# Altium integrated library Wurth_Elektronik_Passive_rev16a.IntLib: 1143 symbols (part 21 of 28)
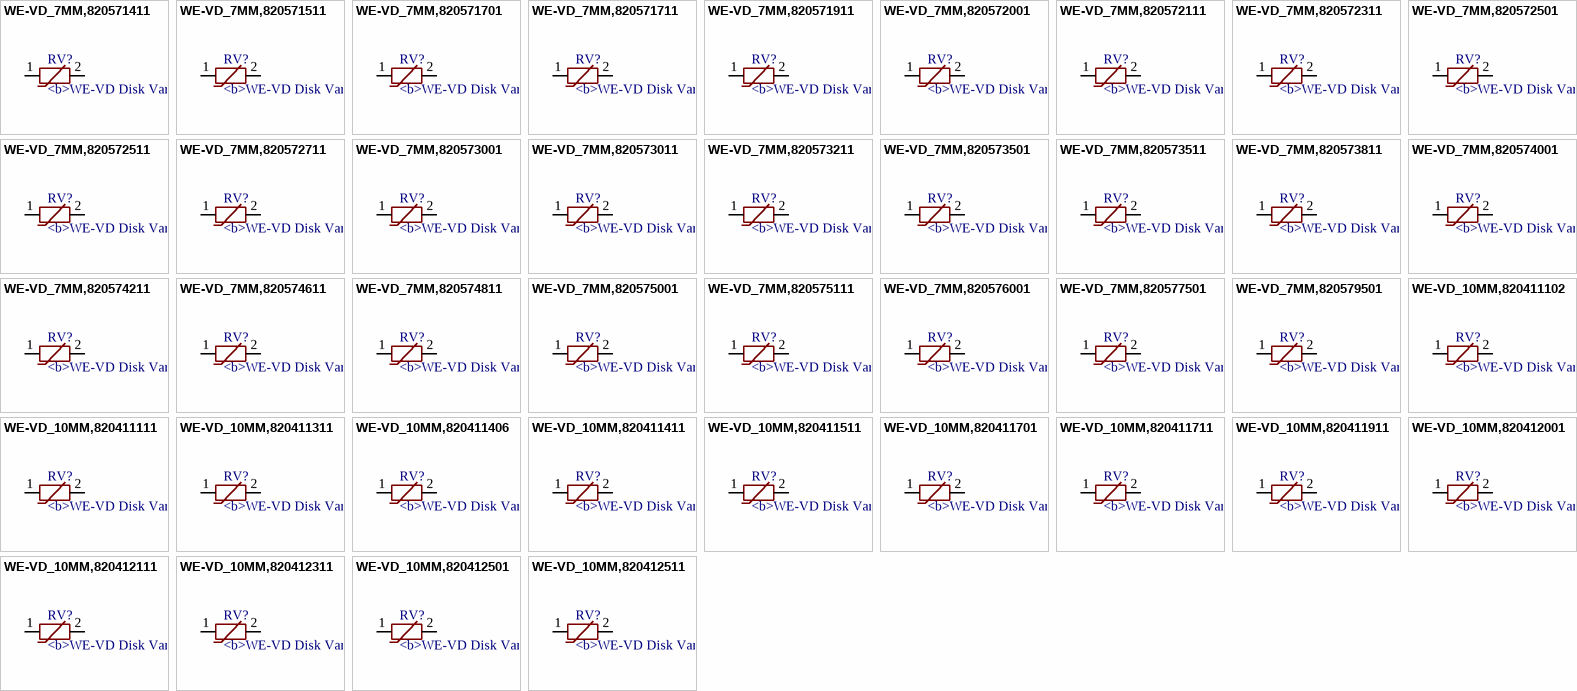
[diagram p78: symbols WE-VD_7MM,820571411 to WE-VD_10MM,820412511]

## WE-VD_10MM,820411411
designator RV?, comment <b>WE-VD Disk Varistor / <br> / <br> / <br><b>Characteristics / <br> / <br></b></b> Low clamping voltage / <br> / <br> After a surge impulse the varistor works immediately in normal mode so there is no slip current / <br> / <br> Excellent absorption at surge impulses / <br> / <br> Operating temperature: –40 ºC to +85 ºC for types up to 95 VRMS –40 ºC to +125 ºC for types from 115 VRMS / <br> / <br> Response time < 25 ns / <br> / <br> UL1449 3rd Edition, CSA and VDE approved UL: File E332875 CSA: File 224856 VDE: File 40016986 and 40016998 IEC: 60950-1: 2005 Annex Q from ∅ 10 mm / <br> / <br> / <br><b> Applications / <br> / <br></b> 12–48 VDC distribution / <br> / <br> 110–400 V power supply / <br> / <br> Leakage of voltage peaks / <br> / <br> Surge protection in accordance with EN 61000-4-5 / <br> / <br> / <br> / <br><a href="http://katalog.we-online.de/media/images/eisos/VarVD_pf2.jpg" title="Enlarge picture"> / <img src="http://katalog.we-online.de/media/images/eisos/VarVD_pf2.jpg" width="320"></a><p> / Details see: <a href="http://katalog.we-online.de/en/pbs/WE-VD?">http://katalog.we-online.de/en/pbs/WE-VD?</a><p> / Updated  by  Dan Xu 2014-07-11<br> / 2014 (C) Wurth Elektronik
MANUFACTURER: Würth Elektronik eiSos GmbH; CREATED-BY: Christin Zierenner; COMPANY-URL: http://www.we-online.de; CREATED-DATE: May 2012; DATASHEET-URL: http://katalog.we-online.de/kataloge/eisos/index.php?language=en&pf=WE-VD
footprint WE-VD_10MM-DIA
pins: 1, 2

## WE-VD_10MM,820411511
designator RV?, comment <b>WE-VD Disk Varistor / <br> / <br> / <br><b>Characteristics / <br> / <br></b></b> Low clamping voltage / <br> / <br> After a surge impulse the varistor works immediately in normal mode so there is no slip current / <br> / <br> Excellent absorption at surge impulses / <br> / <br> Operating temperature: –40 ºC to +85 ºC for types up to 95 VRMS –40 ºC to +125 ºC for types from 115 VRMS / <br> / <br> Response time < 25 ns / <br> / <br> UL1449 3rd Edition, CSA and VDE approved UL: File E332875 CSA: File 224856 VDE: File 40016986 and 40016998 IEC: 60950-1: 2005 Annex Q from ∅ 10 mm / <br> / <br> / <br><b> Applications / <br> / <br></b> 12–48 VDC distribution / <br> / <br> 110–400 V power supply / <br> / <br> Leakage of voltage peaks / <br> / <br> Surge protection in accordance with EN 61000-4-5 / <br> / <br> / <br> / <br><a href="http://katalog.we-online.de/media/images/eisos/VarVD_pf2.jpg" title="Enlarge picture"> / <img src="http://katalog.we-online.de/media/images/eisos/VarVD_pf2.jpg" width="320"></a><p> / Details see: <a href="http://katalog.we-online.de/en/pbs/WE-VD?">http://katalog.we-online.de/en/pbs/WE-VD?</a><p> / Updated  by  Dan Xu 2014-07-11<br> / 2014 (C) Wurth Elektronik
MANUFACTURER: Würth Elektronik eiSos GmbH; CREATED-BY: Christin Zierenner; COMPANY-URL: http://www.we-online.de; CREATED-DATE: May 2012; DATASHEET-URL: http://katalog.we-online.de/kataloge/eisos/index.php?language=en&pf=WE-VD
footprint WE-VD_10MM-DIA
pins: 1, 2

## WE-VD_10MM,820411701
designator RV?, comment <b>WE-VD Disk Varistor / <br> / <br> / <br><b>Characteristics / <br> / <br></b></b> Low clamping voltage / <br> / <br> After a surge impulse the varistor works immediately in normal mode so there is no slip current / <br> / <br> Excellent absorption at surge impulses / <br> / <br> Operating temperature: –40 ºC to +85 ºC for types up to 95 VRMS –40 ºC to +125 ºC for types from 115 VRMS / <br> / <br> Response time < 25 ns / <br> / <br> UL1449 3rd Edition, CSA and VDE approved UL: File E332875 CSA: File 224856 VDE: File 40016986 and 40016998 IEC: 60950-1: 2005 Annex Q from ∅ 10 mm / <br> / <br> / <br><b> Applications / <br> / <br></b> 12–48 VDC distribution / <br> / <br> 110–400 V power supply / <br> / <br> Leakage of voltage peaks / <br> / <br> Surge protection in accordance with EN 61000-4-5 / <br> / <br> / <br> / <br><a href="http://katalog.we-online.de/media/images/eisos/VarVD_pf2.jpg" title="Enlarge picture"> / <img src="http://katalog.we-online.de/media/images/eisos/VarVD_pf2.jpg" width="320"></a><p> / Details see: <a href="http://katalog.we-online.de/en/pbs/WE-VD?">http://katalog.we-online.de/en/pbs/WE-VD?</a><p> / Updated  by  Dan Xu 2014-07-11<br> / 2014 (C) Wurth Elektronik
MANUFACTURER: Würth Elektronik eiSos GmbH; CREATED-BY: Christin Zierenner; COMPANY-URL: http://www.we-online.de; CREATED-DATE: May 2012; DATASHEET-URL: http://katalog.we-online.de/kataloge/eisos/index.php?language=en&pf=WE-VD
footprint WE-VD_10MM-DIA
pins: 1, 2

## WE-VD_10MM,820411711
designator RV?, comment <b>WE-VD Disk Varistor / <br> / <br> / <br><b>Characteristics / <br> / <br></b></b> Low clamping voltage / <br> / <br> After a surge impulse the varistor works immediately in normal mode so there is no slip current / <br> / <br> Excellent absorption at surge impulses / <br> / <br> Operating temperature: –40 ºC to +85 ºC for types up to 95 VRMS –40 ºC to +125 ºC for types from 115 VRMS / <br> / <br> Response time < 25 ns / <br> / <br> UL1449 3rd Edition, CSA and VDE approved UL: File E332875 CSA: File 224856 VDE: File 40016986 and 40016998 IEC: 60950-1: 2005 Annex Q from ∅ 10 mm / <br> / <br> / <br><b> Applications / <br> / <br></b> 12–48 VDC distribution / <br> / <br> 110–400 V power supply / <br> / <br> Leakage of voltage peaks / <br> / <br> Surge protection in accordance with EN 61000-4-5 / <br> / <br> / <br> / <br><a href="http://katalog.we-online.de/media/images/eisos/VarVD_pf2.jpg" title="Enlarge picture"> / <img src="http://katalog.we-online.de/media/images/eisos/VarVD_pf2.jpg" width="320"></a><p> / Details see: <a href="http://katalog.we-online.de/en/pbs/WE-VD?">http://katalog.we-online.de/en/pbs/WE-VD?</a><p> / Updated  by  Dan Xu 2014-07-11<br> / 2014 (C) Wurth Elektronik
MANUFACTURER: Würth Elektronik eiSos GmbH; CREATED-BY: Christin Zierenner; COMPANY-URL: http://www.we-online.de; CREATED-DATE: May 2012; DATASHEET-URL: http://katalog.we-online.de/kataloge/eisos/index.php?language=en&pf=WE-VD
footprint WE-VD_10MM-DIA
pins: 1, 2

## WE-VD_10MM,820411911
designator RV?, comment <b>WE-VD Disk Varistor / <br> / <br> / <br><b>Characteristics / <br> / <br></b></b> Low clamping voltage / <br> / <br> After a surge impulse the varistor works immediately in normal mode so there is no slip current / <br> / <br> Excellent absorption at surge impulses / <br> / <br> Operating temperature: –40 ºC to +85 ºC for types up to 95 VRMS –40 ºC to +125 ºC for types from 115 VRMS / <br> / <br> Response time < 25 ns / <br> / <br> UL1449 3rd Edition, CSA and VDE approved UL: File E332875 CSA: File 224856 VDE: File 40016986 and 40016998 IEC: 60950-1: 2005 Annex Q from ∅ 10 mm / <br> / <br> / <br><b> Applications / <br> / <br></b> 12–48 VDC distribution / <br> / <br> 110–400 V power supply / <br> / <br> Leakage of voltage peaks / <br> / <br> Surge protection in accordance with EN 61000-4-5 / <br> / <br> / <br> / <br><a href="http://katalog.we-online.de/media/images/eisos/VarVD_pf2.jpg" title="Enlarge picture"> / <img src="http://katalog.we-online.de/media/images/eisos/VarVD_pf2.jpg" width="320"></a><p> / Details see: <a href="http://katalog.we-online.de/en/pbs/WE-VD?">http://katalog.we-online.de/en/pbs/WE-VD?</a><p> / Updated  by  Dan Xu 2014-07-11<br> / 2014 (C) Wurth Elektronik
MANUFACTURER: Würth Elektronik eiSos GmbH; CREATED-BY: Christin Zierenner; COMPANY-URL: http://www.we-online.de; CREATED-DATE: May 2012; DATASHEET-URL: http://katalog.we-online.de/kataloge/eisos/index.php?language=en&pf=WE-VD
footprint WE-VD_10MM-DIA
pins: 1, 2

## WE-VD_10MM,820412001
designator RV?, comment <b>WE-VD Disk Varistor / <br> / <br> / <br><b>Characteristics / <br> / <br></b></b> Low clamping voltage / <br> / <br> After a surge impulse the varistor works immediately in normal mode so there is no slip current / <br> / <br> Excellent absorption at surge impulses / <br> / <br> Operating temperature: –40 ºC to +85 ºC for types up to 95 VRMS –40 ºC to +125 ºC for types from 115 VRMS / <br> / <br> Response time < 25 ns / <br> / <br> UL1449 3rd Edition, CSA and VDE approved UL: File E332875 CSA: File 224856 VDE: File 40016986 and 40016998 IEC: 60950-1: 2005 Annex Q from ∅ 10 mm / <br> / <br> / <br><b> Applications / <br> / <br></b> 12–48 VDC distribution / <br> / <br> 110–400 V power supply / <br> / <br> Leakage of voltage peaks / <br> / <br> Surge protection in accordance with EN 61000-4-5 / <br> / <br> / <br> / <br><a href="http://katalog.we-online.de/media/images/eisos/VarVD_pf2.jpg" title="Enlarge picture"> / <img src="http://katalog.we-online.de/media/images/eisos/VarVD_pf2.jpg" width="320"></a><p> / Details see: <a href="http://katalog.we-online.de/en/pbs/WE-VD?">http://katalog.we-online.de/en/pbs/WE-VD?</a><p> / Updated  by  Dan Xu 2014-07-11<br> / 2014 (C) Wurth Elektronik
MANUFACTURER: Würth Elektronik eiSos GmbH; CREATED-BY: Christin Zierenner; COMPANY-URL: http://www.we-online.de; CREATED-DATE: May 2012; DATASHEET-URL: http://katalog.we-online.de/kataloge/eisos/media/pdf/820412001.pdf
footprint WE-VD_10MM-DIA
pins: 1, 2

## WE-VD_10MM,820412111
designator RV?, comment <b>WE-VD Disk Varistor / <br> / <br> / <br><b>Characteristics / <br> / <br></b></b> Low clamping voltage / <br> / <br> After a surge impulse the varistor works immediately in normal mode so there is no slip current / <br> / <br> Excellent absorption at surge impulses / <br> / <br> Operating temperature: –40 ºC to +85 ºC for types up to 95 VRMS –40 ºC to +125 ºC for types from 115 VRMS / <br> / <br> Response time < 25 ns / <br> / <br> UL1449 3rd Edition, CSA and VDE approved UL: File E332875 CSA: File 224856 VDE: File 40016986 and 40016998 IEC: 60950-1: 2005 Annex Q from ∅ 10 mm / <br> / <br> / <br><b> Applications / <br> / <br></b> 12–48 VDC distribution / <br> / <br> 110–400 V power supply / <br> / <br> Leakage of voltage peaks / <br> / <br> Surge protection in accordance with EN 61000-4-5 / <br> / <br> / <br> / <br><a href="http://katalog.we-online.de/media/images/eisos/VarVD_pf2.jpg" title="Enlarge picture"> / <img src="http://katalog.we-online.de/media/images/eisos/VarVD_pf2.jpg" width="320"></a><p> / Details see: <a href="http://katalog.we-online.de/en/pbs/WE-VD?">http://katalog.we-online.de/en/pbs/WE-VD?</a><p> / Updated  by  Dan Xu 2014-07-11<br> / 2014 (C) Wurth Elektronik
MANUFACTURER: Würth Elektronik eiSos GmbH; CREATED-BY: Christin Zierenner; COMPANY-URL: http://www.we-online.de; CREATED-DATE: May 2012; DATASHEET-URL: http://katalog.we-online.de/kataloge/eisos/index.php?language=en&pf=WE-VD
footprint WE-VD_10MM-DIA
pins: 1, 2

## WE-VD_10MM,820412311
designator RV?, comment <b>WE-VD Disk Varistor / <br> / <br> / <br><b>Characteristics / <br> / <br></b></b> Low clamping voltage / <br> / <br> After a surge impulse the varistor works immediately in normal mode so there is no slip current / <br> / <br> Excellent absorption at surge impulses / <br> / <br> Operating temperature: –40 ºC to +85 ºC for types up to 95 VRMS –40 ºC to +125 ºC for types from 115 VRMS / <br> / <br> Response time < 25 ns / <br> / <br> UL1449 3rd Edition, CSA and VDE approved UL: File E332875 CSA: File 224856 VDE: File 40016986 and 40016998 IEC: 60950-1: 2005 Annex Q from ∅ 10 mm / <br> / <br> / <br><b> Applications / <br> / <br></b> 12–48 VDC distribution / <br> / <br> 110–400 V power supply / <br> / <br> Leakage of voltage peaks / <br> / <br> Surge protection in accordance with EN 61000-4-5 / <br> / <br> / <br> / <br><a href="http://katalog.we-online.de/media/images/eisos/VarVD_pf2.jpg" title="Enlarge picture"> / <img src="http://katalog.we-online.de/media/images/eisos/VarVD_pf2.jpg" width="320"></a><p> / Details see: <a href="http://katalog.we-online.de/en/pbs/WE-VD?">http://katalog.we-online.de/en/pbs/WE-VD?</a><p> / Updated  by  Dan Xu 2014-07-11<br> / 2014 (C) Wurth Elektronik
MANUFACTURER: Würth Elektronik eiSos GmbH; CREATED-BY: Christin Zierenner; COMPANY-URL: http://www.we-online.de; CREATED-DATE: May 2012; DATASHEET-URL: http://katalog.we-online.de/kataloge/eisos/index.php?language=en&pf=WE-VD
footprint WE-VD_10MM-0.9
pins: 1, 2

## WE-VD_10MM,820412501
designator RV?, comment <b>WE-VD Disk Varistor / <br> / <br> / <br><b>Characteristics / <br> / <br></b></b> Low clamping voltage / <br> / <br> After a surge impulse the varistor works immediately in normal mode so there is no slip current / <br> / <br> Excellent absorption at surge impulses / <br> / <br> Operating temperature: –40 ºC to +85 ºC for types up to 95 VRMS –40 ºC to +125 ºC for types from 115 VRMS / <br> / <br> Response time < 25 ns / <br> / <br> UL1449 3rd Edition, CSA and VDE approved UL: File E332875 CSA: File 224856 VDE: File 40016986 and 40016998 IEC: 60950-1: 2005 Annex Q from ∅ 10 mm / <br> / <br> / <br><b> Applications / <br> / <br></b> 12–48 VDC distribution / <br> / <br> 110–400 V power supply / <br> / <br> Leakage of voltage peaks / <br> / <br> Surge protection in accordance with EN 61000-4-5 / <br> / <br> / <br> / <br><a href="http://katalog.we-online.de/media/images/eisos/VarVD_pf2.jpg" title="Enlarge picture"> / <img src="http://katalog.we-online.de/media/images/eisos/VarVD_pf2.jpg" width="320"></a><p> / Details see: <a href="http://katalog.we-online.de/en/pbs/WE-VD?">http://katalog.we-online.de/en/pbs/WE-VD?</a><p> / Updated  by  Dan Xu 2014-07-11<br> / 2014 (C) Wurth Elektronik
MANUFACTURER: Würth Elektronik eiSos GmbH; CREATED-BY: Christin Zierenner; COMPANY-URL: http://www.we-online.de; CREATED-DATE: May 2012; DATASHEET-URL: http://katalog.we-online.de/kataloge/eisos/index.php?language=en&pf=WE-VD
footprint WE-VD_10MM-DIA
pins: 1, 2

## WE-VD_10MM,820412511
designator RV?, comment <b>WE-VD Disk Varistor / <br> / <br> / <br><b>Characteristics / <br> / <br></b></b> Low clamping voltage / <br> / <br> After a surge impulse the varistor works immediately in normal mode so there is no slip current / <br> / <br> Excellent absorption at surge impulses / <br> / <br> Operating temperature: –40 ºC to +85 ºC for types up to 95 VRMS –40 ºC to +125 ºC for types from 115 VRMS / <br> / <br> Response time < 25 ns / <br> / <br> UL1449 3rd Edition, CSA and VDE approved UL: File E332875 CSA: File 224856 VDE: File 40016986 and 40016998 IEC: 60950-1: 2005 Annex Q from ∅ 10 mm / <br> / <br> / <br><b> Applications / <br> / <br></b> 12–48 VDC distribution / <br> / <br> 110–400 V power supply / <br> / <br> Leakage of voltage peaks / <br> / <br> Surge protection in accordance with EN 61000-4-5 / <br> / <br> / <br> / <br><a href="http://katalog.we-online.de/media/images/eisos/VarVD_pf2.jpg" title="Enlarge picture"> / <img src="http://katalog.we-online.de/media/images/eisos/VarVD_pf2.jpg" width="320"></a><p> / Details see: <a href="http://katalog.we-online.de/en/pbs/WE-VD?">http://katalog.we-online.de/en/pbs/WE-VD?</a><p> / Updated  by  Dan Xu 2014-07-11<br> / 2014 (C) Wurth Elektronik
MANUFACTURER: Würth Elektronik eiSos GmbH; CREATED-BY: Christin Zierenner; COMPANY-URL: http://www.we-online.de; CREATED-DATE: May 2012; DATASHEET-URL: http://katalog.we-online.de/kataloge/eisos/media/pdf/820412511.pdf
footprint WE-VD_10MM-1.1
pins: 1, 2

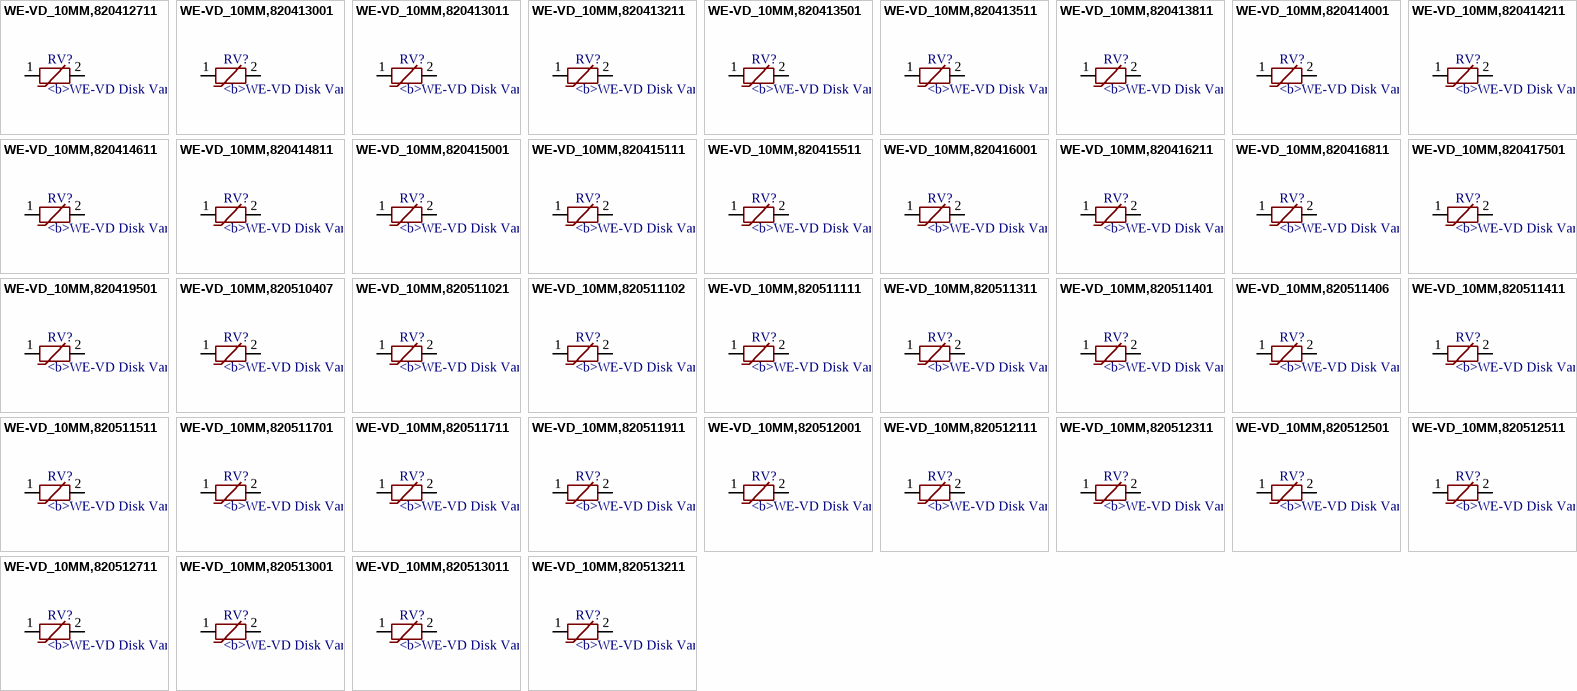
[diagram p52: symbols WE-VD_10MM,820412711 to WE-VD_10MM,820513211]

## WE-VD_10MM,820412711
designator RV?, comment <b>WE-VD Disk Varistor / <br> / <br> / <br><b>Characteristics / <br> / <br></b></b> Low clamping voltage / <br> / <br> After a surge impulse the varistor works immediately in normal mode so there is no slip current / <br> / <br> Excellent absorption at surge impulses / <br> / <br> Operating temperature: –40 ºC to +85 ºC for types up to 95 VRMS –40 ºC to +125 ºC for types from 115 VRMS / <br> / <br> Response time < 25 ns / <br> / <br> UL1449 3rd Edition, CSA and VDE approved UL: File E332875 CSA: File 224856 VDE: File 40016986 and 40016998 IEC: 60950-1: 2005 Annex Q from ∅ 10 mm / <br> / <br> / <br><b> Applications / <br> / <br></b> 12–48 VDC distribution / <br> / <br> 110–400 V power supply / <br> / <br> Leakage of voltage peaks / <br> / <br> Surge protection in accordance with EN 61000-4-5 / <br> / <br> / <br> / <br><a href="http://katalog.we-online.de/media/images/eisos/VarVD_pf2.jpg" title="Enlarge picture"> / <img src="http://katalog.we-online.de/media/images/eisos/VarVD_pf2.jpg" width="320"></a><p> / Details see: <a href="http://katalog.we-online.de/en/pbs/WE-VD?">http://katalog.we-online.de/en/pbs/WE-VD?</a><p> / Updated  by  Dan Xu 2014-07-11<br> / 2014 (C) Wurth Elektronik
MANUFACTURER: Würth Elektronik eiSos GmbH; CREATED-BY: Christin Zierenner; COMPANY-URL: http://www.we-online.de; CREATED-DATE: May 2012; DATASHEET-URL: http://katalog.we-online.de/kataloge/eisos/media/pdf/820412711.pdf
footprint WE-VD_10MM-1.3
pins: 1, 2

## WE-VD_10MM,820413001
designator RV?, comment <b>WE-VD Disk Varistor / <br> / <br> / <br><b>Characteristics / <br> / <br></b></b> Low clamping voltage / <br> / <br> After a surge impulse the varistor works immediately in normal mode so there is no slip current / <br> / <br> Excellent absorption at surge impulses / <br> / <br> Operating temperature: –40 ºC to +85 ºC for types up to 95 VRMS –40 ºC to +125 ºC for types from 115 VRMS / <br> / <br> Response time < 25 ns / <br> / <br> UL1449 3rd Edition, CSA and VDE approved UL: File E332875 CSA: File 224856 VDE: File 40016986 and 40016998 IEC: 60950-1: 2005 Annex Q from ∅ 10 mm / <br> / <br> / <br><b> Applications / <br> / <br></b> 12–48 VDC distribution / <br> / <br> 110–400 V power supply / <br> / <br> Leakage of voltage peaks / <br> / <br> Surge protection in accordance with EN 61000-4-5 / <br> / <br> / <br> / <br><a href="http://katalog.we-online.de/media/images/eisos/VarVD_pf2.jpg" title="Enlarge picture"> / <img src="http://katalog.we-online.de/media/images/eisos/VarVD_pf2.jpg" width="320"></a><p> / Details see: <a href="http://katalog.we-online.de/en/pbs/WE-VD?">http://katalog.we-online.de/en/pbs/WE-VD?</a><p> / Updated  by  Dan Xu 2014-07-11<br> / 2014 (C) Wurth Elektronik
MANUFACTURER: Würth Elektronik eiSos GmbH; CREATED-BY: Christin Zierenner; COMPANY-URL: http://www.we-online.de; CREATED-DATE: May 2012; DATASHEET-URL: http://katalog.we-online.de/kataloge/eisos/index.php?language=en&pf=WE-VD
footprint WE-VD_10MM-DIA
pins: 1, 2

## WE-VD_10MM,820413011
designator RV?, comment <b>WE-VD Disk Varistor / <br> / <br> / <br><b>Characteristics / <br> / <br></b></b> Low clamping voltage / <br> / <br> After a surge impulse the varistor works immediately in normal mode so there is no slip current / <br> / <br> Excellent absorption at surge impulses / <br> / <br> Operating temperature: –40 ºC to +85 ºC for types up to 95 VRMS –40 ºC to +125 ºC for types from 115 VRMS / <br> / <br> Response time < 25 ns / <br> / <br> UL1449 3rd Edition, CSA and VDE approved UL: File E332875 CSA: File 224856 VDE: File 40016986 and 40016998 IEC: 60950-1: 2005 Annex Q from ∅ 10 mm / <br> / <br> / <br><b> Applications / <br> / <br></b> 12–48 VDC distribution / <br> / <br> 110–400 V power supply / <br> / <br> Leakage of voltage peaks / <br> / <br> Surge protection in accordance with EN 61000-4-5 / <br> / <br> / <br> / <br><a href="http://katalog.we-online.de/media/images/eisos/VarVD_pf2.jpg" title="Enlarge picture"> / <img src="http://katalog.we-online.de/media/images/eisos/VarVD_pf2.jpg" width="320"></a><p> / Details see: <a href="http://katalog.we-online.de/en/pbs/WE-VD?">http://katalog.we-online.de/en/pbs/WE-VD?</a><p> / Updated  by  Dan Xu 2014-07-11<br> / 2014 (C) Wurth Elektronik
MANUFACTURER: Würth Elektronik eiSos GmbH; CREATED-BY: Christin Zierenner; COMPANY-URL: http://www.we-online.de; CREATED-DATE: May 2012; DATASHEET-URL: http://katalog.we-online.de/kataloge/eisos/index.php?language=en&pf=WE-VD
footprint WE-VD_10MM-1.5
pins: 1, 2

## WE-VD_10MM,820413211
designator RV?, comment <b>WE-VD Disk Varistor / <br> / <br> / <br><b>Characteristics / <br> / <br></b></b> Low clamping voltage / <br> / <br> After a surge impulse the varistor works immediately in normal mode so there is no slip current / <br> / <br> Excellent absorption at surge impulses / <br> / <br> Operating temperature: –40 ºC to +85 ºC for types up to 95 VRMS –40 ºC to +125 ºC for types from 115 VRMS / <br> / <br> Response time < 25 ns / <br> / <br> UL1449 3rd Edition, CSA and VDE approved UL: File E332875 CSA: File 224856 VDE: File 40016986 and 40016998 IEC: 60950-1: 2005 Annex Q from ∅ 10 mm / <br> / <br> / <br><b> Applications / <br> / <br></b> 12–48 VDC distribution / <br> / <br> 110–400 V power supply / <br> / <br> Leakage of voltage peaks / <br> / <br> Surge protection in accordance with EN 61000-4-5 / <br> / <br> / <br> / <br><a href="http://katalog.we-online.de/media/images/eisos/VarVD_pf2.jpg" title="Enlarge picture"> / <img src="http://katalog.we-online.de/media/images/eisos/VarVD_pf2.jpg" width="320"></a><p> / Details see: <a href="http://katalog.we-online.de/en/pbs/WE-VD?">http://katalog.we-online.de/en/pbs/WE-VD?</a><p> / Updated  by  Dan Xu 2014-07-11<br> / 2014 (C) Wurth Elektronik
MANUFACTURER: Würth Elektronik eiSos GmbH; CREATED-BY: Christin Zierenner; COMPANY-URL: http://www.we-online.de; CREATED-DATE: May 2012; DATASHEET-URL: http://katalog.we-online.de/kataloge/eisos/index.php?language=en&pf=WE-VD
footprint WE-VD_10MM-1.6
pins: 1, 2

## WE-VD_10MM,820413501
designator RV?, comment <b>WE-VD Disk Varistor / <br> / <br> / <br><b>Characteristics / <br> / <br></b></b> Low clamping voltage / <br> / <br> After a surge impulse the varistor works immediately in normal mode so there is no slip current / <br> / <br> Excellent absorption at surge impulses / <br> / <br> Operating temperature: –40 ºC to +85 ºC for types up to 95 VRMS –40 ºC to +125 ºC for types from 115 VRMS / <br> / <br> Response time < 25 ns / <br> / <br> UL1449 3rd Edition, CSA and VDE approved UL: File E332875 CSA: File 224856 VDE: File 40016986 and 40016998 IEC: 60950-1: 2005 Annex Q from ∅ 10 mm / <br> / <br> / <br><b> Applications / <br> / <br></b> 12–48 VDC distribution / <br> / <br> 110–400 V power supply / <br> / <br> Leakage of voltage peaks / <br> / <br> Surge protection in accordance with EN 61000-4-5 / <br> / <br> / <br> / <br><a href="http://katalog.we-online.de/media/images/eisos/VarVD_pf2.jpg" title="Enlarge picture"> / <img src="http://katalog.we-online.de/media/images/eisos/VarVD_pf2.jpg" width="320"></a><p> / Details see: <a href="http://katalog.we-online.de/en/pbs/WE-VD?">http://katalog.we-online.de/en/pbs/WE-VD?</a><p> / Updated  by  Dan Xu 2014-07-11<br> / 2014 (C) Wurth Elektronik
MANUFACTURER: Würth Elektronik eiSos GmbH; CREATED-BY: Christin Zierenner; COMPANY-URL: http://www.we-online.de; CREATED-DATE: May 2012; DATASHEET-URL: http://katalog.we-online.de/kataloge/eisos/index.php?language=en&pf=WE-VD
footprint WE-VD_10MM-0.9
pins: 1, 2

## WE-VD_10MM,820413511
designator RV?, comment <b>WE-VD Disk Varistor / <br> / <br> / <br><b>Characteristics / <br> / <br></b></b> Low clamping voltage / <br> / <br> After a surge impulse the varistor works immediately in normal mode so there is no slip current / <br> / <br> Excellent absorption at surge impulses / <br> / <br> Operating temperature: –40 ºC to +85 ºC for types up to 95 VRMS –40 ºC to +125 ºC for types from 115 VRMS / <br> / <br> Response time < 25 ns / <br> / <br> UL1449 3rd Edition, CSA and VDE approved UL: File E332875 CSA: File 224856 VDE: File 40016986 and 40016998 IEC: 60950-1: 2005 Annex Q from ∅ 10 mm / <br> / <br> / <br><b> Applications / <br> / <br></b> 12–48 VDC distribution / <br> / <br> 110–400 V power supply / <br> / <br> Leakage of voltage peaks / <br> / <br> Surge protection in accordance with EN 61000-4-5 / <br> / <br> / <br> / <br><a href="http://katalog.we-online.de/media/images/eisos/VarVD_pf2.jpg" title="Enlarge picture"> / <img src="http://katalog.we-online.de/media/images/eisos/VarVD_pf2.jpg" width="320"></a><p> / Details see: <a href="http://katalog.we-online.de/en/pbs/WE-VD?">http://katalog.we-online.de/en/pbs/WE-VD?</a><p> / Updated  by  Dan Xu 2014-07-11<br> / 2014 (C) Wurth Elektronik
MANUFACTURER: Würth Elektronik eiSos GmbH; CREATED-BY: Christin Zierenner; COMPANY-URL: http://www.we-online.de; CREATED-DATE: May 2012; DATASHEET-URL: http://katalog.we-online.de/kataloge/eisos/index.php?language=en&pf=WE-VD
footprint WE-VD_10MM-1.9
pins: 1, 2

## WE-VD_10MM,820413811
designator RV?, comment <b>WE-VD Disk Varistor / <br> / <br> / <br><b>Characteristics / <br> / <br></b></b> Low clamping voltage / <br> / <br> After a surge impulse the varistor works immediately in normal mode so there is no slip current / <br> / <br> Excellent absorption at surge impulses / <br> / <br> Operating temperature: –40 ºC to +85 ºC for types up to 95 VRMS –40 ºC to +125 ºC for types from 115 VRMS / <br> / <br> Response time < 25 ns / <br> / <br> UL1449 3rd Edition, CSA and VDE approved UL: File E332875 CSA: File 224856 VDE: File 40016986 and 40016998 IEC: 60950-1: 2005 Annex Q from ∅ 10 mm / <br> / <br> / <br><b> Applications / <br> / <br></b> 12–48 VDC distribution / <br> / <br> 110–400 V power supply / <br> / <br> Leakage of voltage peaks / <br> / <br> Surge protection in accordance with EN 61000-4-5 / <br> / <br> / <br> / <br><a href="http://katalog.we-online.de/media/images/eisos/VarVD_pf2.jpg" title="Enlarge picture"> / <img src="http://katalog.we-online.de/media/images/eisos/VarVD_pf2.jpg" width="320"></a><p> / Details see: <a href="http://katalog.we-online.de/en/pbs/WE-VD?">http://katalog.we-online.de/en/pbs/WE-VD?</a><p> / Updated  by  Dan Xu 2014-07-11<br> / 2014 (C) Wurth Elektronik
MANUFACTURER: Würth Elektronik eiSos GmbH; CREATED-BY: Christin Zierenner; COMPANY-URL: http://www.we-online.de; CREATED-DATE: May 2012; DATASHEET-URL: http://katalog.we-online.de/kataloge/eisos/index.php?language=en&pf=WE-VD
footprint WE-VD_10MM-2.2
pins: 1, 2

## WE-VD_10MM,820414001
designator RV?, comment <b>WE-VD Disk Varistor / <br> / <br> / <br><b>Characteristics / <br> / <br></b></b> Low clamping voltage / <br> / <br> After a surge impulse the varistor works immediately in normal mode so there is no slip current / <br> / <br> Excellent absorption at surge impulses / <br> / <br> Operating temperature: –40 ºC to +85 ºC for types up to 95 VRMS –40 ºC to +125 ºC for types from 115 VRMS / <br> / <br> Response time < 25 ns / <br> / <br> UL1449 3rd Edition, CSA and VDE approved UL: File E332875 CSA: File 224856 VDE: File 40016986 and 40016998 IEC: 60950-1: 2005 Annex Q from ∅ 10 mm / <br> / <br> / <br><b> Applications / <br> / <br></b> 12–48 VDC distribution / <br> / <br> 110–400 V power supply / <br> / <br> Leakage of voltage peaks / <br> / <br> Surge protection in accordance with EN 61000-4-5 / <br> / <br> / <br> / <br><a href="http://katalog.we-online.de/media/images/eisos/VarVD_pf2.jpg" title="Enlarge picture"> / <img src="http://katalog.we-online.de/media/images/eisos/VarVD_pf2.jpg" width="320"></a><p> / Details see: <a href="http://katalog.we-online.de/en/pbs/WE-VD?">http://katalog.we-online.de/en/pbs/WE-VD?</a><p> / Updated  by  Dan Xu 2014-07-11<br> / 2014 (C) Wurth Elektronik
MANUFACTURER: Würth Elektronik eiSos GmbH; CREATED-BY: Christin Zierenner; COMPANY-URL: http://www.we-online.de; CREATED-DATE: May 2012; DATASHEET-URL: http://katalog.we-online.de/kataloge/eisos/index.php?language=en&pf=WE-VD
footprint WE-VD_10MM-1.3
pins: 1, 2

## WE-VD_10MM,820414211
designator RV?, comment <b>WE-VD Disk Varistor / <br> / <br> / <br><b>Characteristics / <br> / <br></b></b> Low clamping voltage / <br> / <br> After a surge impulse the varistor works immediately in normal mode so there is no slip current / <br> / <br> Excellent absorption at surge impulses / <br> / <br> Operating temperature: –40 ºC to +85 ºC for types up to 95 VRMS –40 ºC to +125 ºC for types from 115 VRMS / <br> / <br> Response time < 25 ns / <br> / <br> UL1449 3rd Edition, CSA and VDE approved UL: File E332875 CSA: File 224856 VDE: File 40016986 and 40016998 IEC: 60950-1: 2005 Annex Q from ∅ 10 mm / <br> / <br> / <br><b> Applications / <br> / <br></b> 12–48 VDC distribution / <br> / <br> 110–400 V power supply / <br> / <br> Leakage of voltage peaks / <br> / <br> Surge protection in accordance with EN 61000-4-5 / <br> / <br> / <br> / <br><a href="http://katalog.we-online.de/media/images/eisos/VarVD_pf2.jpg" title="Enlarge picture"> / <img src="http://katalog.we-online.de/media/images/eisos/VarVD_pf2.jpg" width="320"></a><p> / Details see: <a href="http://katalog.we-online.de/en/pbs/WE-VD?">http://katalog.we-online.de/en/pbs/WE-VD?</a><p> / Updated  by  Dan Xu 2014-07-11<br> / 2014 (C) Wurth Elektronik
MANUFACTURER: Würth Elektronik eiSos GmbH; CREATED-BY: Christin Zierenner; COMPANY-URL: http://www.we-online.de; CREATED-DATE: May 2012; DATASHEET-URL: http://katalog.we-online.de/kataloge/eisos/index.php?language=en&pf=WE-VD
footprint WE-VD_10MM-2.5
pins: 1, 2

## WE-VD_10MM,820414611
designator RV?, comment <b>WE-VD Disk Varistor / <br> / <br> / <br><b>Characteristics / <br> / <br></b></b> Low clamping voltage / <br> / <br> After a surge impulse the varistor works immediately in normal mode so there is no slip current / <br> / <br> Excellent absorption at surge impulses / <br> / <br> Operating temperature: –40 ºC to +85 ºC for types up to 95 VRMS –40 ºC to +125 ºC for types from 115 VRMS / <br> / <br> Response time < 25 ns / <br> / <br> UL1449 3rd Edition, CSA and VDE approved UL: File E332875 CSA: File 224856 VDE: File 40016986 and 40016998 IEC: 60950-1: 2005 Annex Q from ∅ 10 mm / <br> / <br> / <br><b> Applications / <br> / <br></b> 12–48 VDC distribution / <br> / <br> 110–400 V power supply / <br> / <br> Leakage of voltage peaks / <br> / <br> Surge protection in accordance with EN 61000-4-5 / <br> / <br> / <br> / <br><a href="http://katalog.we-online.de/media/images/eisos/VarVD_pf2.jpg" title="Enlarge picture"> / <img src="http://katalog.we-online.de/media/images/eisos/VarVD_pf2.jpg" width="320"></a><p> / Details see: <a href="http://katalog.we-online.de/en/pbs/WE-VD?">http://katalog.we-online.de/en/pbs/WE-VD?</a><p> / Updated  by  Dan Xu 2014-07-11<br> / 2014 (C) Wurth Elektronik
MANUFACTURER: Würth Elektronik eiSos GmbH; CREATED-BY: Christin Zierenner; COMPANY-URL: http://www.we-online.de; CREATED-DATE: May 2012; DATASHEET-URL: http://katalog.we-online.de/kataloge/eisos/index.php?language=en&pf=WE-VD
footprint WE-VD_10MM-2.8
pins: 1, 2

## WE-VD_10MM,820414811
designator RV?, comment <b>WE-VD Disk Varistor / <br> / <br> / <br><b>Characteristics / <br> / <br></b></b> Low clamping voltage / <br> / <br> After a surge impulse the varistor works immediately in normal mode so there is no slip current / <br> / <br> Excellent absorption at surge impulses / <br> / <br> Operating temperature: –40 ºC to +85 ºC for types up to 95 VRMS –40 ºC to +125 ºC for types from 115 VRMS / <br> / <br> Response time < 25 ns / <br> / <br> UL1449 3rd Edition, CSA and VDE approved UL: File E332875 CSA: File 224856 VDE: File 40016986 and 40016998 IEC: 60950-1: 2005 Annex Q from ∅ 10 mm / <br> / <br> / <br><b> Applications / <br> / <br></b> 12–48 VDC distribution / <br> / <br> 110–400 V power supply / <br> / <br> Leakage of voltage peaks / <br> / <br> Surge protection in accordance with EN 61000-4-5 / <br> / <br> / <br> / <br><a href="http://katalog.we-online.de/media/images/eisos/VarVD_pf2.jpg" title="Enlarge picture"> / <img src="http://katalog.we-online.de/media/images/eisos/VarVD_pf2.jpg" width="320"></a><p> / Details see: <a href="http://katalog.we-online.de/en/pbs/WE-VD?">http://katalog.we-online.de/en/pbs/WE-VD?</a><p> / Updated  by  Dan Xu 2014-07-11<br> / 2014 (C) Wurth Elektronik
MANUFACTURER: Würth Elektronik eiSos GmbH; CREATED-BY: Christin Zierenner; COMPANY-URL: http://www.we-online.de; CREATED-DATE: May 2012; DATASHEET-URL: http://katalog.we-online.de/kataloge/eisos/index.php?language=en&pf=WE-VD
footprint WE-VD_10MM-2.9
pins: 1, 2

## WE-VD_10MM,820415001
designator RV?, comment <b>WE-VD Disk Varistor / <br> / <br> / <br><b>Characteristics / <br> / <br></b></b> Low clamping voltage / <br> / <br> After a surge impulse the varistor works immediately in normal mode so there is no slip current / <br> / <br> Excellent absorption at surge impulses / <br> / <br> Operating temperature: –40 ºC to +85 ºC for types up to 95 VRMS –40 ºC to +125 ºC for types from 115 VRMS / <br> / <br> Response time < 25 ns / <br> / <br> UL1449 3rd Edition, CSA and VDE approved UL: File E332875 CSA: File 224856 VDE: File 40016986 and 40016998 IEC: 60950-1: 2005 Annex Q from ∅ 10 mm / <br> / <br> / <br><b> Applications / <br> / <br></b> 12–48 VDC distribution / <br> / <br> 110–400 V power supply / <br> / <br> Leakage of voltage peaks / <br> / <br> Surge protection in accordance with EN 61000-4-5 / <br> / <br> / <br> / <br><a href="http://katalog.we-online.de/media/images/eisos/VarVD_pf2.jpg" title="Enlarge picture"> / <img src="http://katalog.we-online.de/media/images/eisos/VarVD_pf2.jpg" width="320"></a><p> / Details see: <a href="http://katalog.we-online.de/en/pbs/WE-VD?">http://katalog.we-online.de/en/pbs/WE-VD?</a><p> / Updated  by  Dan Xu 2014-07-11<br> / 2014 (C) Wurth Elektronik
MANUFACTURER: Würth Elektronik eiSos GmbH; CREATED-BY: Christin Zierenner; COMPANY-URL: http://www.we-online.de; CREATED-DATE: May 2012; DATASHEET-URL: http://katalog.we-online.de/kataloge/eisos/index.php?language=en&pf=WE-VD
footprint WE-VD_10MM-DIA
pins: 1, 2

## WE-VD_10MM,820415111
designator RV?, comment <b>WE-VD Disk Varistor / <br> / <br> / <br><b>Characteristics / <br> / <br></b></b> Low clamping voltage / <br> / <br> After a surge impulse the varistor works immediately in normal mode so there is no slip current / <br> / <br> Excellent absorption at surge impulses / <br> / <br> Operating temperature: –40 ºC to +85 ºC for types up to 95 VRMS –40 ºC to +125 ºC for types from 115 VRMS / <br> / <br> Response time < 25 ns / <br> / <br> UL1449 3rd Edition, CSA and VDE approved UL: File E332875 CSA: File 224856 VDE: File 40016986 and 40016998 IEC: 60950-1: 2005 Annex Q from ∅ 10 mm / <br> / <br> / <br><b> Applications / <br> / <br></b> 12–48 VDC distribution / <br> / <br> 110–400 V power supply / <br> / <br> Leakage of voltage peaks / <br> / <br> Surge protection in accordance with EN 61000-4-5 / <br> / <br> / <br> / <br><a href="http://katalog.we-online.de/media/images/eisos/VarVD_pf2.jpg" title="Enlarge picture"> / <img src="http://katalog.we-online.de/media/images/eisos/VarVD_pf2.jpg" width="320"></a><p> / Details see: <a href="http://katalog.we-online.de/en/pbs/WE-VD?">http://katalog.we-online.de/en/pbs/WE-VD?</a><p> / Updated  by  Dan Xu 2014-07-11<br> / 2014 (C) Wurth Elektronik
MANUFACTURER: Würth Elektronik eiSos GmbH; CREATED-BY: Christin Zierenner; COMPANY-URL: http://www.we-online.de; CREATED-DATE: May 2012; DATASHEET-URL: http://katalog.we-online.de/kataloge/eisos/index.php?language=en&pf=WE-VD
footprint WE-VD_10MM-3.1
pins: 1, 2

## WE-VD_10MM,820415511
designator RV?, comment <b>WE-VD Disk Varistor / <br> / <br> / <br><b>Characteristics / <br> / <br></b></b> Low clamping voltage / <br> / <br> After a surge impulse the varistor works immediately in normal mode so there is no slip current / <br> / <br> Excellent absorption at surge impulses / <br> / <br> Operating temperature: –40 ºC to +85 ºC for types up to 95 VRMS –40 ºC to +125 ºC for types from 115 VRMS / <br> / <br> Response time < 25 ns / <br> / <br> UL1449 3rd Edition, CSA and VDE approved UL: File E332875 CSA: File 224856 VDE: File 40016986 and 40016998 IEC: 60950-1: 2005 Annex Q from ∅ 10 mm / <br> / <br> / <br><b> Applications / <br> / <br></b> 12–48 VDC distribution / <br> / <br> 110–400 V power supply / <br> / <br> Leakage of voltage peaks / <br> / <br> Surge protection in accordance with EN 61000-4-5 / <br> / <br> / <br> / <br><a href="http://katalog.we-online.de/media/images/eisos/VarVD_pf2.jpg" title="Enlarge picture"> / <img src="http://katalog.we-online.de/media/images/eisos/VarVD_pf2.jpg" width="320"></a><p> / Details see: <a href="http://katalog.we-online.de/en/pbs/WE-VD?">http://katalog.we-online.de/en/pbs/WE-VD?</a><p> / Updated  by  Dan Xu 2014-07-11<br> / 2014 (C) Wurth Elektronik
MANUFACTURER: Würth Elektronik eiSos GmbH; CREATED-BY: Christin Zierenner; COMPANY-URL: http://www.we-online.de; CREATED-DATE: May 2012; DATASHEET-URL: http://katalog.we-online.de/kataloge/eisos/media/pdf/820415511B.pdf
footprint WE-VD_10MM-3.6
pins: 1, 2

## WE-VD_10MM,820416001
designator RV?, comment <b>WE-VD Disk Varistor / <br> / <br> / <br><b>Characteristics / <br> / <br></b></b> Low clamping voltage / <br> / <br> After a surge impulse the varistor works immediately in normal mode so there is no slip current / <br> / <br> Excellent absorption at surge impulses / <br> / <br> Operating temperature: –40 ºC to +85 ºC for types up to 95 VRMS –40 ºC to +125 ºC for types from 115 VRMS / <br> / <br> Response time < 25 ns / <br> / <br> UL1449 3rd Edition, CSA and VDE approved UL: File E332875 CSA: File 224856 VDE: File 40016986 and 40016998 IEC: 60950-1: 2005 Annex Q from ∅ 10 mm / <br> / <br> / <br><b> Applications / <br> / <br></b> 12–48 VDC distribution / <br> / <br> 110–400 V power supply / <br> / <br> Leakage of voltage peaks / <br> / <br> Surge protection in accordance with EN 61000-4-5 / <br> / <br> / <br> / <br><a href="http://katalog.we-online.de/media/images/eisos/VarVD_pf2.jpg" title="Enlarge picture"> / <img src="http://katalog.we-online.de/media/images/eisos/VarVD_pf2.jpg" width="320"></a><p> / Details see: <a href="http://katalog.we-online.de/en/pbs/WE-VD?">http://katalog.we-online.de/en/pbs/WE-VD?</a><p> / Updated  by  Dan Xu 2014-07-11<br> / 2014 (C) Wurth Elektronik
MANUFACTURER: Würth Elektronik eiSos GmbH; CREATED-BY: Christin Zierenner; COMPANY-URL: http://www.we-online.de; CREATED-DATE: May 2012; DATASHEET-URL: http://katalog.we-online.de/kataloge/eisos/index.php?language=en&pf=WE-VD
footprint WE-VD_10MM-DIA
pins: 1, 2

## WE-VD_10MM,820416211
designator RV?, comment <b>WE-VD Disk Varistor / <br> / <br> / <br><b>Characteristics / <br> / <br></b></b> Low clamping voltage / <br> / <br> After a surge impulse the varistor works immediately in normal mode so there is no slip current / <br> / <br> Excellent absorption at surge impulses / <br> / <br> Operating temperature: –40 ºC to +85 ºC for types up to 95 VRMS –40 ºC to +125 ºC for types from 115 VRMS / <br> / <br> Response time < 25 ns / <br> / <br> UL1449 3rd Edition, CSA and VDE approved UL: File E332875 CSA: File 224856 VDE: File 40016986 and 40016998 IEC: 60950-1: 2005 Annex Q from ∅ 10 mm / <br> / <br> / <br><b> Applications / <br> / <br></b> 12–48 VDC distribution / <br> / <br> 110–400 V power supply / <br> / <br> Leakage of voltage peaks / <br> / <br> Surge protection in accordance with EN 61000-4-5 / <br> / <br> / <br> / <br><a href="http://katalog.we-online.de/media/images/eisos/VarVD_pf2.jpg" title="Enlarge picture"> / <img src="http://katalog.we-online.de/media/images/eisos/VarVD_pf2.jpg" width="320"></a><p> / Details see: <a href="http://katalog.we-online.de/en/pbs/WE-VD?">http://katalog.we-online.de/en/pbs/WE-VD?</a><p> / Updated  by  Dan Xu 2014-07-11<br> / 2014 (C) Wurth Elektronik
MANUFACTURER: Würth Elektronik eiSos GmbH; CREATED-BY: Christin Zierenner; COMPANY-URL: http://www.we-online.de; CREATED-DATE: May 2012; DATASHEET-URL: http://katalog.we-online.de/kataloge/eisos/index.php?language=en&pf=WE-VD
footprint WE-VD_10MM-4.0
pins: 1, 2

## WE-VD_10MM,820416811
designator RV?, comment <b>WE-VD Disk Varistor / <br> / <br> / <br><b>Characteristics / <br> / <br></b></b> Low clamping voltage / <br> / <br> After a surge impulse the varistor works immediately in normal mode so there is no slip current / <br> / <br> Excellent absorption at surge impulses / <br> / <br> Operating temperature: –40 ºC to +85 ºC for types up to 95 VRMS –40 ºC to +125 ºC for types from 115 VRMS / <br> / <br> Response time < 25 ns / <br> / <br> UL1449 3rd Edition, CSA and VDE approved UL: File E332875 CSA: File 224856 VDE: File 40016986 and 40016998 IEC: 60950-1: 2005 Annex Q from ∅ 10 mm / <br> / <br> / <br><b> Applications / <br> / <br></b> 12–48 VDC distribution / <br> / <br> 110–400 V power supply / <br> / <br> Leakage of voltage peaks / <br> / <br> Surge protection in accordance with EN 61000-4-5 / <br> / <br> / <br> / <br><a href="http://katalog.we-online.de/media/images/eisos/VarVD_pf2.jpg" title="Enlarge picture"> / <img src="http://katalog.we-online.de/media/images/eisos/VarVD_pf2.jpg" width="320"></a><p> / Details see: <a href="http://katalog.we-online.de/en/pbs/WE-VD?">http://katalog.we-online.de/en/pbs/WE-VD?</a><p> / Updated  by  Dan Xu 2014-07-11<br> / 2014 (C) Wurth Elektronik
MANUFACTURER: Würth Elektronik eiSos GmbH; CREATED-BY: Christin Zierenner; COMPANY-URL: http://www.we-online.de; CREATED-DATE: May 2012; DATASHEET-URL: http://katalog.we-online.de/kataloge/eisos/index.php?language=en&pf=WE-VD
footprint WE-VD_10MM-4.5
pins: 1, 2

## WE-VD_10MM,820417501
designator RV?, comment <b>WE-VD Disk Varistor / <br> / <br> / <br><b>Characteristics / <br> / <br></b></b> Low clamping voltage / <br> / <br> After a surge impulse the varistor works immediately in normal mode so there is no slip current / <br> / <br> Excellent absorption at surge impulses / <br> / <br> Operating temperature: –40 ºC to +85 ºC for types up to 95 VRMS –40 ºC to +125 ºC for types from 115 VRMS / <br> / <br> Response time < 25 ns / <br> / <br> UL1449 3rd Edition, CSA and VDE approved UL: File E332875 CSA: File 224856 VDE: File 40016986 and 40016998 IEC: 60950-1: 2005 Annex Q from ∅ 10 mm / <br> / <br> / <br><b> Applications / <br> / <br></b> 12–48 VDC distribution / <br> / <br> 110–400 V power supply / <br> / <br> Leakage of voltage peaks / <br> / <br> Surge protection in accordance with EN 61000-4-5 / <br> / <br> / <br> / <br><a href="http://katalog.we-online.de/media/images/eisos/VarVD_pf2.jpg" title="Enlarge picture"> / <img src="http://katalog.we-online.de/media/images/eisos/VarVD_pf2.jpg" width="320"></a><p> / Details see: <a href="http://katalog.we-online.de/en/pbs/WE-VD?">http://katalog.we-online.de/en/pbs/WE-VD?</a><p> / Updated  by  Dan Xu 2014-07-11<br> / 2014 (C) Wurth Elektronik
MANUFACTURER: Würth Elektronik eiSos GmbH; CREATED-BY: Christin Zierenner; COMPANY-URL: http://www.we-online.de; CREATED-DATE: May 2012; DATASHEET-URL: http://katalog.we-online.de/kataloge/eisos/index.php?language=en&pf=WE-VD
footprint WE-VD_10MM-DIA
pins: 1, 2

## WE-VD_10MM,820419501
designator RV?, comment <b>WE-VD Disk Varistor / <br> / <br> / <br><b>Characteristics / <br> / <br></b></b> Low clamping voltage / <br> / <br> After a surge impulse the varistor works immediately in normal mode so there is no slip current / <br> / <br> Excellent absorption at surge impulses / <br> / <br> Operating temperature: –40 ºC to +85 ºC for types up to 95 VRMS –40 ºC to +125 ºC for types from 115 VRMS / <br> / <br> Response time < 25 ns / <br> / <br> UL1449 3rd Edition, CSA and VDE approved UL: File E332875 CSA: File 224856 VDE: File 40016986 and 40016998 IEC: 60950-1: 2005 Annex Q from ∅ 10 mm / <br> / <br> / <br><b> Applications / <br> / <br></b> 12–48 VDC distribution / <br> / <br> 110–400 V power supply / <br> / <br> Leakage of voltage peaks / <br> / <br> Surge protection in accordance with EN 61000-4-5 / <br> / <br> / <br> / <br><a href="http://katalog.we-online.de/media/images/eisos/VarVD_pf2.jpg" title="Enlarge picture"> / <img src="http://katalog.we-online.de/media/images/eisos/VarVD_pf2.jpg" width="320"></a><p> / Details see: <a href="http://katalog.we-online.de/en/pbs/WE-VD?">http://katalog.we-online.de/en/pbs/WE-VD?</a><p> / Updated  by  Dan Xu 2014-07-11<br> / 2014 (C) Wurth Elektronik
MANUFACTURER: Würth Elektronik eiSos GmbH; CREATED-BY: Christin Zierenner; COMPANY-URL: http://www.we-online.de; CREATED-DATE: May 2012; DATASHEET-URL: http://katalog.we-online.de/kataloge/eisos/index.php?language=en&pf=WE-VD
footprint WE-VD_10MM-DIA
pins: 1, 2

## WE-VD_10MM,820510407
designator RV?, comment <b>WE-VD Disk Varistor / <br> / <br> / <br><b>Characteristics / <br> / <br></b></b> Low clamping voltage / <br> / <br> After a surge impulse the varistor works immediately in normal mode so there is no slip current / <br> / <br> Excellent absorption at surge impulses / <br> / <br> Operating temperature: –40 ºC to +85 ºC for types up to 95 VRMS –40 ºC to +125 ºC for types from 115 VRMS / <br> / <br> Response time < 25 ns / <br> / <br> UL1449 3rd Edition, CSA and VDE approved UL: File E332875 CSA: File 224856 VDE: File 40016986 and 40016998 IEC: 60950-1: 2005 Annex Q from ∅ 10 mm / <br> / <br> / <br><b> Applications / <br> / <br></b> 12–48 VDC distribution / <br> / <br> 110–400 V power supply / <br> / <br> Leakage of voltage peaks / <br> / <br> Surge protection in accordance with EN 61000-4-5 / <br> / <br> / <br> / <br><a href="http://katalog.we-online.de/media/images/eisos/VarVD_pf2.jpg" title="Enlarge picture"> / <img src="http://katalog.we-online.de/media/images/eisos/VarVD_pf2.jpg" width="320"></a><p> / Details see: <a href="http://katalog.we-online.de/en/pbs/WE-VD?">http://katalog.we-online.de/en/pbs/WE-VD?</a><p> / Updated  by  Dan Xu 2014-07-11<br> / 2014 (C) Wurth Elektronik
MANUFACTURER: Würth Elektronik eiSos GmbH; CREATED-BY: Christin Zierenner; COMPANY-URL: http://www.we-online.de; CREATED-DATE: May 2012; DATASHEET-URL: http://katalog.we-online.de/kataloge/eisos/index.php?language=en&pf=WE-VD
footprint WE-VD_10MM-DIA
pins: 1, 2

## WE-VD_10MM,820511021
designator RV?, comment <b>WE-VD Disk Varistor / <br> / <br> / <br><b>Characteristics / <br> / <br></b></b> Low clamping voltage / <br> / <br> After a surge impulse the varistor works immediately in normal mode so there is no slip current / <br> / <br> Excellent absorption at surge impulses / <br> / <br> Operating temperature: –40 ºC to +85 ºC for types up to 95 VRMS –40 ºC to +125 ºC for types from 115 VRMS / <br> / <br> Response time < 25 ns / <br> / <br> UL1449 3rd Edition, CSA and VDE approved UL: File E332875 CSA: File 224856 VDE: File 40016986 and 40016998 IEC: 60950-1: 2005 Annex Q from ∅ 10 mm / <br> / <br> / <br><b> Applications / <br> / <br></b> 12–48 VDC distribution / <br> / <br> 110–400 V power supply / <br> / <br> Leakage of voltage peaks / <br> / <br> Surge protection in accordance with EN 61000-4-5 / <br> / <br> / <br> / <br><a href="http://katalog.we-online.de/media/images/eisos/VarVD_pf2.jpg" title="Enlarge picture"> / <img src="http://katalog.we-online.de/media/images/eisos/VarVD_pf2.jpg" width="320"></a><p> / Details see: <a href="http://katalog.we-online.de/en/pbs/WE-VD?">http://katalog.we-online.de/en/pbs/WE-VD?</a><p> / Updated  by  Dan Xu 2014-07-11<br> / 2014 (C) Wurth Elektronik
MANUFACTURER: Würth Elektronik eiSos GmbH; CREATED-BY: Christin Zierenner; COMPANY-URL: http://www.we-online.de; CREATED-DATE: May 2012; DATASHEET-URL: http://katalog.we-online.de/kataloge/eisos/index.php?language=en&pf=WE-VD
footprint WE-VD_10MM-9.8
pins: 1, 2

## WE-VD_10MM,820511102
designator RV?, comment <b>WE-VD Disk Varistor / <br> / <br> / <br><b>Characteristics / <br> / <br></b></b> Low clamping voltage / <br> / <br> After a surge impulse the varistor works immediately in normal mode so there is no slip current / <br> / <br> Excellent absorption at surge impulses / <br> / <br> Operating temperature: –40 ºC to +85 ºC for types up to 95 VRMS –40 ºC to +125 ºC for types from 115 VRMS / <br> / <br> Response time < 25 ns / <br> / <br> UL1449 3rd Edition, CSA and VDE approved UL: File E332875 CSA: File 224856 VDE: File 40016986 and 40016998 IEC: 60950-1: 2005 Annex Q from ∅ 10 mm / <br> / <br> / <br><b> Applications / <br> / <br></b> 12–48 VDC distribution / <br> / <br> 110–400 V power supply / <br> / <br> Leakage of voltage peaks / <br> / <br> Surge protection in accordance with EN 61000-4-5 / <br> / <br> / <br> / <br><a href="http://katalog.we-online.de/media/images/eisos/VarVD_pf2.jpg" title="Enlarge picture"> / <img src="http://katalog.we-online.de/media/images/eisos/VarVD_pf2.jpg" width="320"></a><p> / Details see: <a href="http://katalog.we-online.de/en/pbs/WE-VD?">http://katalog.we-online.de/en/pbs/WE-VD?</a><p> / Updated  by  Dan Xu 2014-07-11<br> / 2014 (C) Wurth Elektronik
MANUFACTURER: Würth Elektronik eiSos GmbH; CREATED-BY: Christin Zierenner; COMPANY-URL: http://www.we-online.de; CREATED-DATE: May 2012; DATASHEET-URL: http://katalog.we-online.de/kataloge/eisos/index.php?language=en&pf=WE-VD
footprint WE-VD_10MM-DIA
pins: 1, 2

## WE-VD_10MM,820511111
designator RV?, comment <b>WE-VD Disk Varistor / <br> / <br> / <br><b>Characteristics / <br> / <br></b></b> Low clamping voltage / <br> / <br> After a surge impulse the varistor works immediately in normal mode so there is no slip current / <br> / <br> Excellent absorption at surge impulses / <br> / <br> Operating temperature: –40 ºC to +85 ºC for types up to 95 VRMS –40 ºC to +125 ºC for types from 115 VRMS / <br> / <br> Response time < 25 ns / <br> / <br> UL1449 3rd Edition, CSA and VDE approved UL: File E332875 CSA: File 224856 VDE: File 40016986 and 40016998 IEC: 60950-1: 2005 Annex Q from ∅ 10 mm / <br> / <br> / <br><b> Applications / <br> / <br></b> 12–48 VDC distribution / <br> / <br> 110–400 V power supply / <br> / <br> Leakage of voltage peaks / <br> / <br> Surge protection in accordance with EN 61000-4-5 / <br> / <br> / <br> / <br><a href="http://katalog.we-online.de/media/images/eisos/VarVD_pf2.jpg" title="Enlarge picture"> / <img src="http://katalog.we-online.de/media/images/eisos/VarVD_pf2.jpg" width="320"></a><p> / Details see: <a href="http://katalog.we-online.de/en/pbs/WE-VD?">http://katalog.we-online.de/en/pbs/WE-VD?</a><p> / Updated  by  Dan Xu 2014-07-11<br> / 2014 (C) Wurth Elektronik
MANUFACTURER: Würth Elektronik eiSos GmbH; CREATED-BY: Christin Zierenner; COMPANY-URL: http://www.we-online.de; CREATED-DATE: May 2012; DATASHEET-URL: http://katalog.we-online.de/kataloge/eisos/index.php?language=en&pf=WE-VD
footprint WE-VD_10MM-DIA
pins: 1, 2